# Altium footprint library HAKATAYA.PcbLib: 227 footprints (part 15 of 15)
Each footprint in its own frame and in the unit in brackets; x right, y up, seen from the top. Pads: shape width x height; smd on the part's side, far side on the other; paste and mask are expansions set on the pad; w line width, h text height; cw(c..) or ccw(c..) is an arc to the next point about the centre after c.
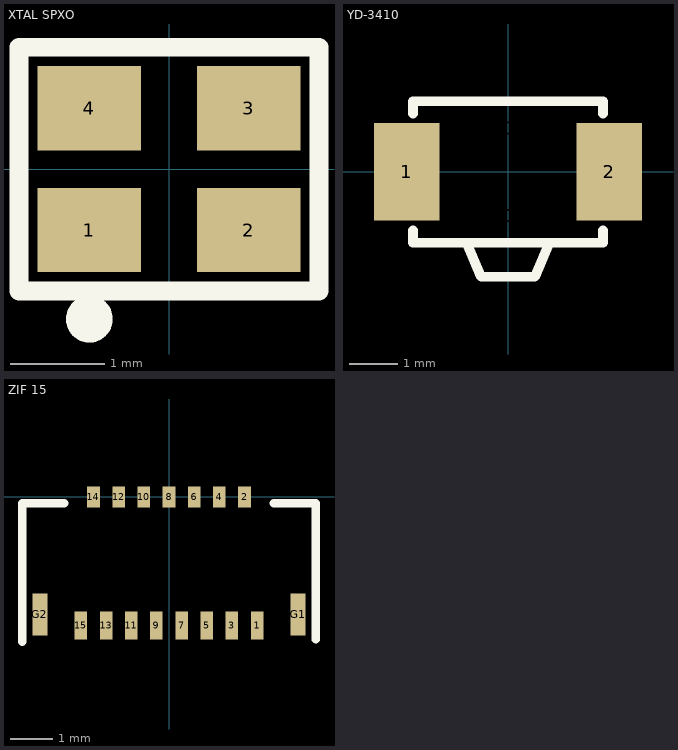
[diagram p14: the footprints below, top view; thin cyan lines are the x and y axes]

## XTAL SPXO [mm] "EPSON SG-210STF"
height 0.8
pads (4):
  rect 1.1x0.9 smd: 1(-0.85,-0.65) 2(0.85,-0.65) 3(0.85,0.65) 4(-0.85,0.65)
Top Overlay:
  circle w0.25: c-0.85,-1.6 r0.125
  lines w0.2: -1.6,-1.3 1.6,-1.3 1.6,1.3 -1.6,1.3 -1.6,-1.3

## YD-3410 [mm] "SMD TACT SWITCH"
height 1.5
pads (4):
  round 0.75 on Drill Drawing: 0(0,-0.9) 0(0,0.9)
  rect 1.35x2 smd: 1(-2.075,0) 2(2.075,0)
Top Overlay:
  lines w0.2: -1.95,-1.2 -1.95,-1.45 1.95,-1.45 1.95,-1.2 ; -1.95,1.2 -1.95,1.45 1.95,1.45 1.95,1.2 ; -0.85,-1.45 -0.55,-2.15 0.55,-2.15 0.85,-1.45

## ZIF 15 [mm] "15FXR-RSM1-GAN-TB"
height 1
pads (17):
  rect 0.3x0.67 smd: 1(2.1,-3.065) 3(1.5,-3.065) 5(0.9,-3.065) 7(0.3,-3.065) 9(-0.3,-3.065) 11(-0.9,-3.065) 13(-1.5,-3.065) 15(-2.1,-3.065)
  rect 0.3x0.5 smd: 2(1.8,0) 4(1.2,0) 6(0.6,0) 8(0,0) 10(-0.6,0) 12(-1.2,0) 14(-1.8,0)
  rect 0.35x1 smd: G1(3.075,-2.8) G2(-3.075,-2.8)
Top Overlay:
  lines w0.2: -3.5,-3.45 -3.5,-0.15 -2.5,-0.15 ; 2.5,-0.15 3.5,-0.15 3.5,-3.4